# EAGLE library part SFW15R-2STE1LF (library SamacSys_Parts)
FFC & FPC Connectors 15P SIDE SMT ZIF UPPER CONTACT Source: Datasheet <https://cdn.amphenol-icc.com/media/wysiwyg/files/drawing/sfw12lf.pdf>
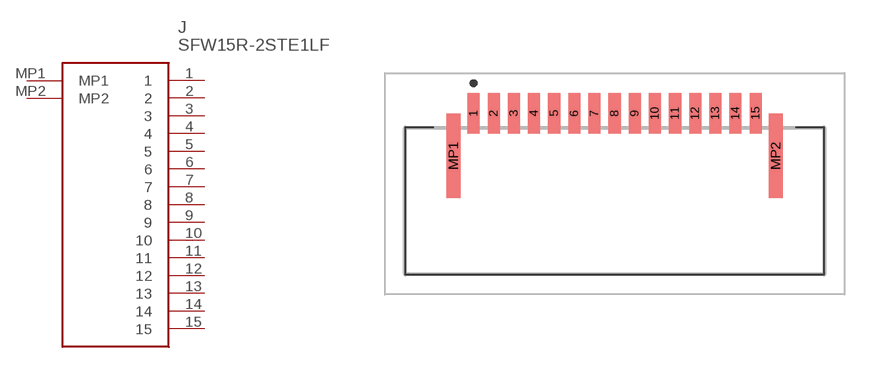
[diagram p9: symbol with the pads of SFW15R2STE1LF; footprint SFW15R2STE1LF]

Designator prefix J

## SFW15R-2STE1LF (Arrow_Part_Number: SFW15R-2STE1LF; Arrow_Price-Stock: https://www.arrow.com/en/products/sfw15r-2ste1lf/amphenol-fci; Description: FFC & FPC Connectors 15P SIDE SMT ZIF UPPER CONTACT; Height: 2.7mm; Manufacturer_Name: Amphenol; Manufacturer_Part_Number: SFW15R-2STE1LF; Mouser_Part_Number: 649-SFW15R-2STE1LF; Mouser_Price-Stock: https://www.mouser.co.uk/ProductDetail/Amphenol-FCI/SFW15R-2STE1LF?qs=XRaITl65jnu3B148xsdn9A%3D%3D)  [SFW15R2STE1LF]
1  1
2  2
3  3
4  4
5  5
6  6
7  7
8  8
9  9
10  10
11  11
12  12
13  13
14  14
15  15
MP1  MP1
MP2  MP2

## Footprint SFW15R2STE1LF (pad centres in mm)
SFW15R-2STE1LF-2
smd 0.6 x 2: 1 -7,4; 2 -6,4; 3 -5,4; 4 -4,4; 5 -3,4; 6 -2,4; 7 -1,4; 8 0,4; 9 1,4; 10 2,4; 11 3,4; 12 4,4; 13 5,4; 14 6,4; 15 7,4
smd 0.7 x 4.2: MP1 -8,1.9; MP2 8,1.9